# Altium footprint library button cell.PcbLib: 1 footprints
Each footprint in its own frame and in the unit in brackets; x right, y up, seen from the top. Pads: shape width x height; smd on the part's side, far side on the other; paste and mask are expansions set on the pad; w line width, h text height; cw(c..) or ccw(c..) is an arc to the next point about the centre after c.
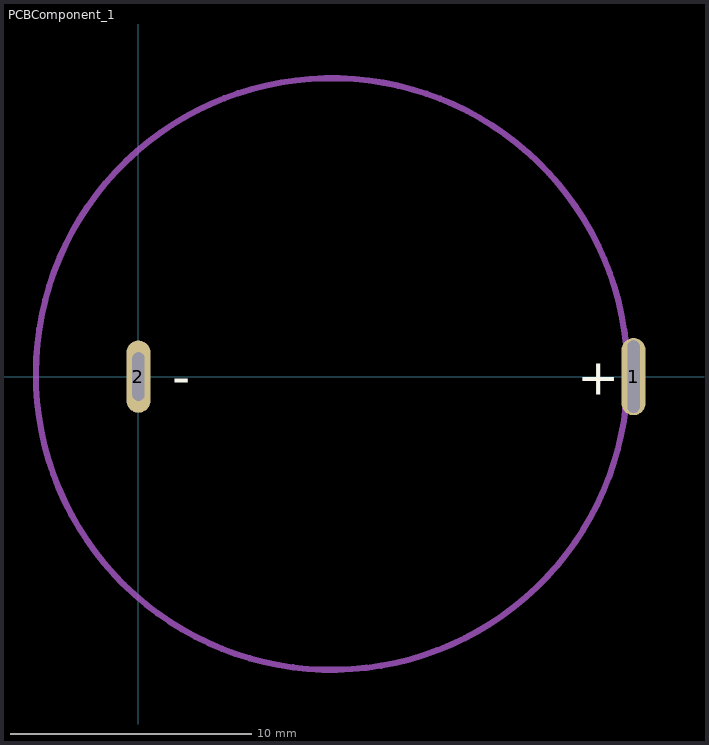
[diagram p0: the footprint, top view; thin cyan lines are the x and y axes]

## PCBComponent_1 [mm]
pads (2):
  oval 1x3.2 hole 0.5 slot 3 at 90 deg mask+0.08: 1(20.5,0)
  oval 1x3 hole 0.5 slot 2 at 90 deg mask+0.08: 2(0,0)
Top Overlay:
  text "+" at 18.161,-0.762 h1.52
  text "-" at 1.397,-0.762 h1.52
Mechanical 1:
  lines w0.254: 20.25,0.002 cw(c8,0.107) 20.25,0.107